# EAGLE library part STM32F4X1_BLACKPILL_BREAKOUT (library mestrado)
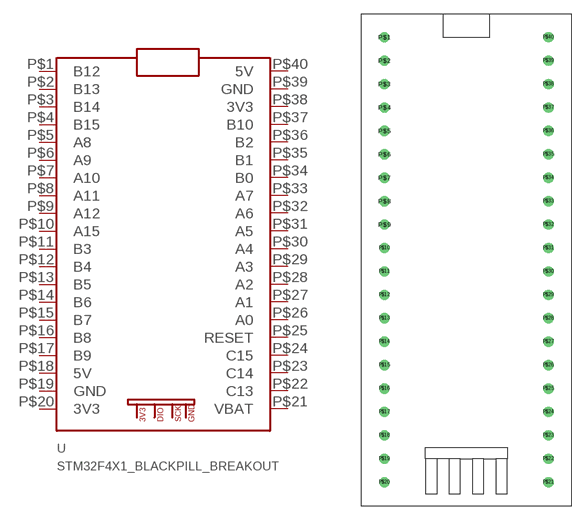
[diagram p15: symbol with the pads of STM32_PILLS_BREAKOUT; footprint STM32_PILLS_BREAKOUT]

Designator prefix U

## STM32F4X1_BLACKPILL_BREAKOUT  [STM32_PILLS_BREAKOUT]
P$1  B12
P$2  B13
P$3  B14
P$4  B15
P$5  A8
P$6  A9
P$7  A10
P$8  A11
P$9  A12
P$10  A15
P$11  B3
P$12  B4
P$13  B5
P$14  B6
P$15  B7
P$16  B8
P$17  B9
P$18  5V
P$19  GND
P$20  3V3
P$21  VBAT
P$22  C13
P$23  C14
P$24  C15
P$25  RESET
P$26  A0
P$27  A1
P$28  A2
P$29  A3
P$30  A4
P$31  A5
P$32  A6
P$33  A7
P$34  B0
P$35  B1
P$36  B2
P$37  B10
P$38  3V3
P$39  GND
P$40  5V

## Footprint STM32_PILLS_BREAKOUT (pad centres in mm)
drill 0.6: P$1 2.54,50.8; P$2 2.54,48.26; P$3 2.54,45.72; P$4 2.54,43.18; P$5 2.54,40.64; P$6 2.54,38.1; P$7 2.54,35.56; P$8 2.54,33.02; P$9 2.54,30.48; P$10 2.54,27.94; P$11 2.54,25.4; P$12 2.54,22.86; P$13 2.54,20.32; P$14 2.54,17.78; P$15 2.54,15.24; P$16 2.54,12.7; P$17 2.54,10.16; P$18 2.54,7.62; P$19 2.54,5.08; P$20 2.54,2.54; P$21 20.32,2.54; P$22 20.32,5.08; P$23 20.32,7.62; P$24 20.32,10.16; P$25 20.32,12.7; P$26 20.32,15.24; P$27 20.32,17.78; P$28 20.32,20.32; P$29 20.32,22.86; P$30 20.32,25.4; P$31 20.32,27.94; P$32 20.32,30.48; P$33 20.32,33.02; P$34 20.32,35.56; P$35 20.32,38.1; P$36 20.32,40.64; P$37 20.32,43.18; P$38 20.32,45.72; P$39 20.32,48.26; P$40 20.32,50.8